# EAGLE library part FS8205_DUAL_MOSFET (library Eric Navarrete Custom Parts Feb 2019)
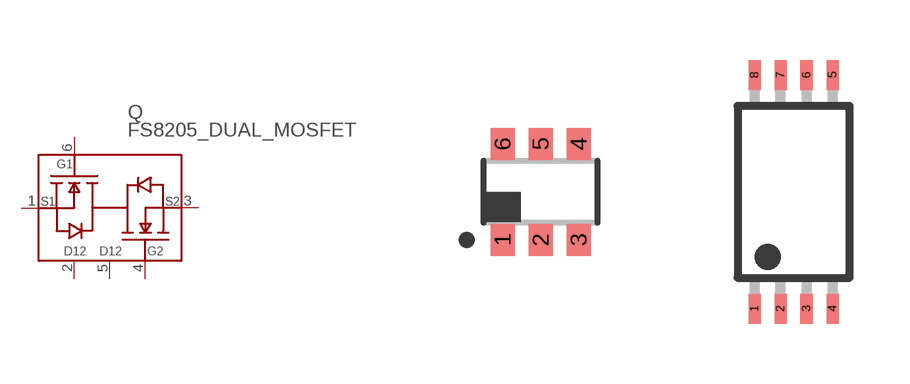
[diagram p14: symbol with the pads of SOT23-6; footprints SOT23-6, TSSOP-8]

Designator prefix Q

## FS8205_DUAL_MOSFETFS8205  [SOT23-6]
1  S1
2  D12
3  S2
4  G2
5  D12
6  G1

## FS8205_DUAL_MOSFETFS8205A  [TSSOP-8]
1  D12
2  S1
3  S1
4  G1
5  G2
6  S2
7  S2
8  D12

## Footprint SOT23-6 (pad centres in mm)
battery protection IC 6 lead, 3 on botton are smaller (type A )
smd 0.6 x 0.8: 1 -0.95,-1.2; 2 0,-1.2; 3 0.95,-1.2; 4 0.95,1.2; 5 0,1.2; 6 -0.95,1.2

## Footprint TSSOP-8 (pad centres in mm)
Thin Shrink Small Outline Plastic 8 package <http://goo.gl/36CEIY>
smd 0.3 x 0.75: 1 -0.975,-2.925; 2 -0.325,-2.925; 3 0.325,-2.925; 4 0.975,-2.925; 5 0.975,2.925; 6 0.325,2.925; 7 -0.325,2.925; 8 -0.975,2.925